# EAGLE library part LPC313X/314X (library microbuilder)
LPC3130/LPC3131 - 180MHz ARM926EJ-S CPU with 96KB (LPC3130) or 192KB (LPC3131) SRAM LPC3141 - 270MHz ARM926EJ-S CPU with 192KB SRAM LPC3143 - 270MHz ARM926EJ-S CPU with 192KB SRAM and AES decryption engine/128-bit unique ID (LPC3143 only)
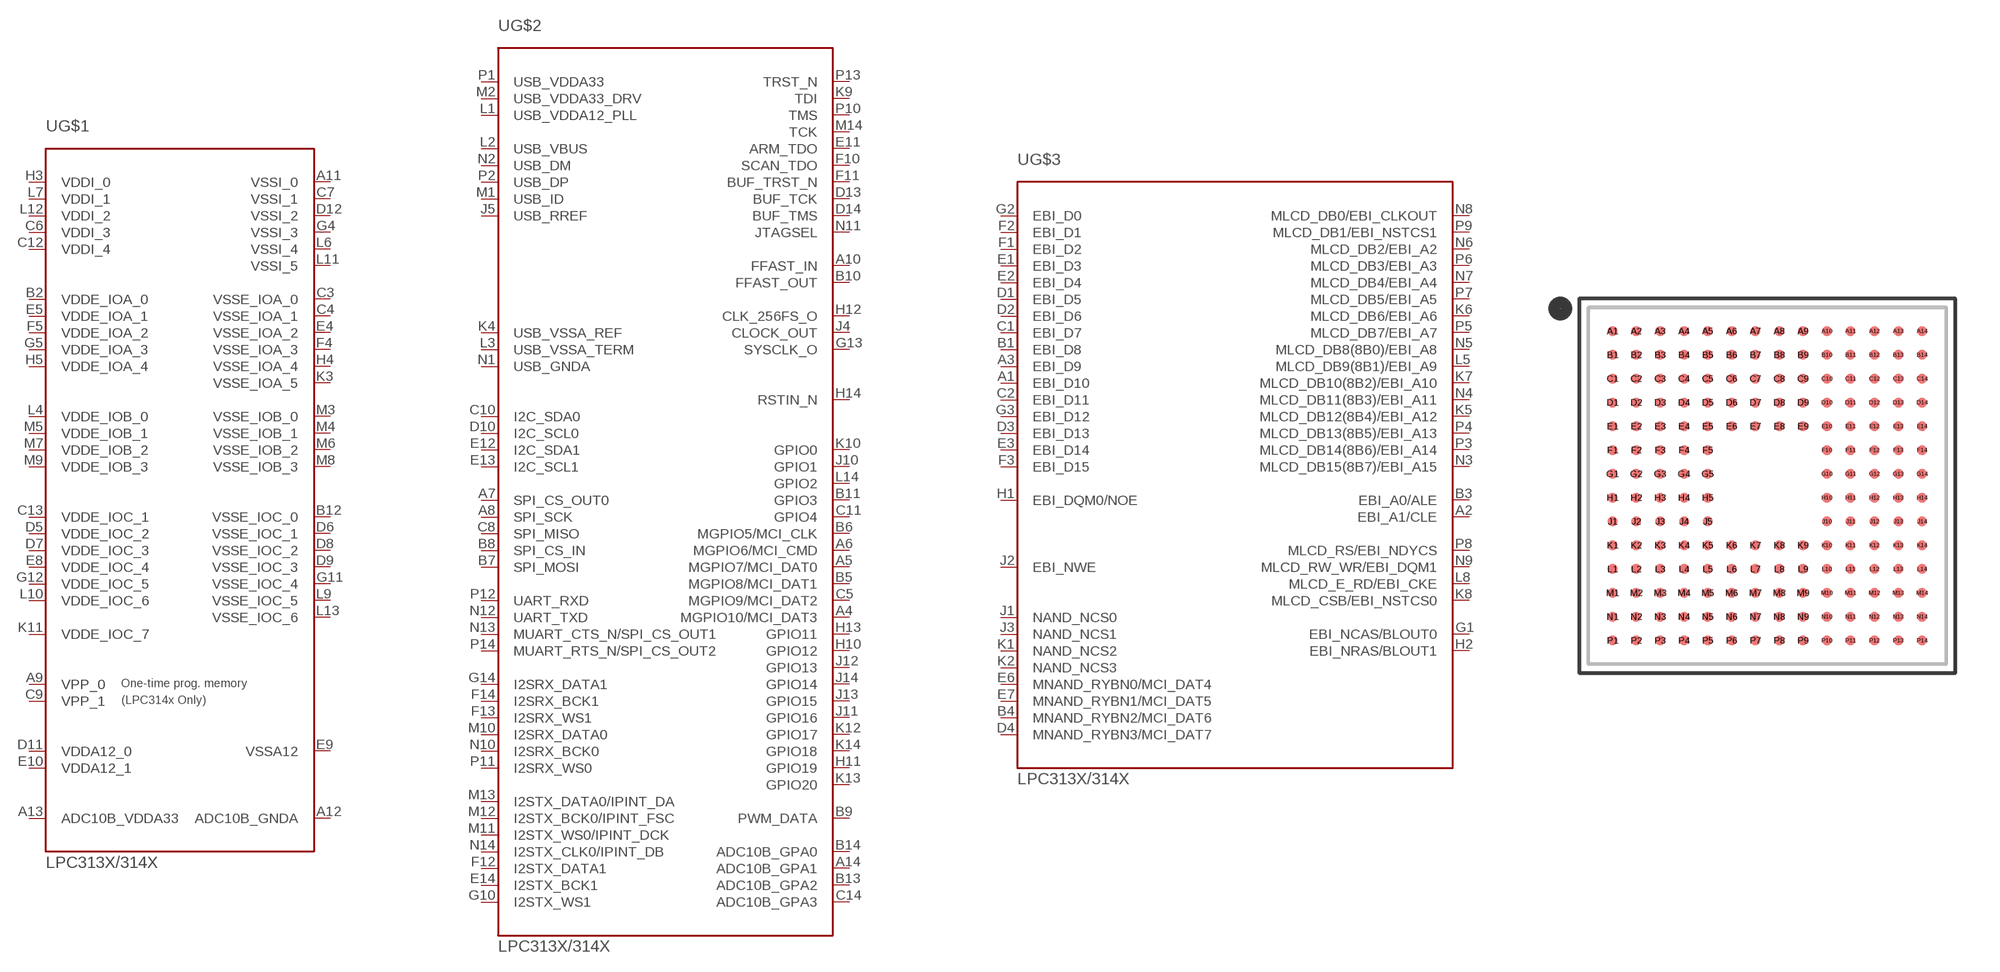
[diagram p72: symbol with the pads of TFBGA180_0.8; footprint TFBGA180_0.8]

Designator prefix U; gates G$1=LPC313X/314X_0 G$2=LPC313X/314X_1 G$3=LPC313X/314X_2

## LPC313X/314X  [TFBGA180_0.8]
A1  G$3:EBI_D10
A2  G$3:EBI_A1/CLE
A3  G$3:EBI_D9
A4  G$2:MGPIO10/MCI_DAT3
A5  G$2:MGPIO7/MCI_DAT0
A6  G$2:MGPIO6/MCI_CMD
A7  G$2:SPI_CS_OUT0
A8  G$2:SPI_SCK
A9  G$1:VPP_0  pwr
A10  G$2:FFAST_IN
A11  G$1:VSSI_0  pwr
A12  G$1:ADC10B_GNDA  pwr
A13  G$1:ADC10B_VDDA33  pwr
A14  G$2:ADC10B_GPA1
B1  G$3:EBI_D8
B2  G$1:VDDE_IOA_0  pwr
B3  G$3:EBI_A0/ALE
B4  G$3:MNAND_RYBN2/MCI_DAT6
B5  G$2:MGPIO8/MCI_DAT1
B6  G$2:MGPIO5/MCI_CLK
B7  G$2:SPI_MOSI
B8  G$2:SPI_CS_IN
B9  G$2:PWM_DATA
B10  G$2:FFAST_OUT
B11  G$2:GPIO3
B12  G$1:VSSE_IOC_0  pwr
B13  G$2:ADC10B_GPA2
B14  G$2:ADC10B_GPA0
C1  G$3:EBI_D7
C2  G$3:EBI_D11
C3  G$1:VSSE_IOA_0  pwr
C4  G$1:VSSE_IOA_1  pwr
C5  G$2:MGPIO9/MCI_DAT2
C6  G$1:VDDI_3  pwr
C7  G$1:VSSI_1  pwr
C8  G$2:SPI_MISO
C9  G$1:VPP_1  pwr
C10  G$2:I2C_SDA0
C11  G$2:GPIO4
C12  G$1:VDDI_4  pwr
C13  G$1:VDDE_IOC_1  pwr
C14  G$2:ADC10B_GPA3
D1  G$3:EBI_D5
D2  G$3:EBI_D6
D3  G$3:EBI_D13
D4  G$3:MNAND_RYBN3/MCI_DAT7
D5  G$1:VDDE_IOC_2  pwr
D6  G$1:VSSE_IOC_1  pwr
D7  G$1:VDDE_IOC_3  pwr
D8  G$1:VSSE_IOC_2  pwr
D9  G$1:VSSE_IOC_3  pwr
D10  G$2:I2C_SCL0
D11  G$1:VDDA12_0  pwr
D12  G$1:VSSI_2  pwr
D13  G$2:BUF_TCK
D14  G$2:BUF_TMS
E1  G$3:EBI_D3
E2  G$3:EBI_D4
E3  G$3:EBI_D14
E4  G$1:VSSE_IOA_2  pwr
E5  G$1:VDDE_IOA_1  pwr
E6  G$3:MNAND_RYBN0/MCI_DAT4
E7  G$3:MNAND_RYBN1/MCI_DAT5
E8  G$1:VDDE_IOC_4  pwr
E9  G$1:VSSA12  pwr
E10  G$1:VDDA12_1  pwr
E11  G$2:ARM_TDO
E12  G$2:I2C_SDA1
E13  G$2:I2C_SCL1
E14  G$2:I2STX_BCK1
F1  G$3:EBI_D2
F2  G$3:EBI_D1
F3  G$3:EBI_D15
F4  G$1:VSSE_IOA_3  pwr
F5  G$1:VDDE_IOA_2  pwr
F10  G$2:SCAN_TDO
F11  G$2:BUF_TRST_N
F12  G$2:I2STX_DATA1
F13  G$2:I2SRX_WS1
F14  G$2:I2SRX_BCK1
G1  G$3:EBI_NCAS/BLOUT0
G2  G$3:EBI_D0
G3  G$3:EBI_D12
G4  G$1:VSSI_3  pwr
G5  G$1:VDDE_IOA_3  pwr
G10  G$2:I2STX_WS1
G11  G$1:VSSE_IOC_4  pwr
G12  G$1:VDDE_IOC_5  pwr
G13  G$2:SYSCLK_O
G14  G$2:I2SRX_DATA1
H1  G$3:EBI_DQM0/NOE
H2  G$3:EBI_NRAS/BLOUT1
H3  G$1:VDDI_0  pwr
H4  G$1:VSSE_IOA_4  pwr
H5  G$1:VDDE_IOA_4  pwr
H10  G$2:GPIO12
H11  G$2:GPIO19
H12  G$2:CLK_256FS_O
H13  G$2:GPIO11
H14  G$2:RSTIN_N
J1  G$3:NAND_NCS0
J2  G$3:EBI_NWE
J3  G$3:NAND_NCS1
J4  G$2:CLOCK_OUT
J5  G$2:USB_RREF
J10  G$2:GPIO1
J11  G$2:GPIO16
J12  G$2:GPIO13
J13  G$2:GPIO15
J14  G$2:GPIO14
K1  G$3:NAND_NCS2
K2  G$3:NAND_NCS3
K3  G$1:VSSE_IOA_5  pwr
K4  G$2:USB_VSSA_REF
K5  G$3:MLCD_DB12(8B4)/EBI_A12
K6  G$3:MLCD_DB6/EBI_A6
K7  G$3:MLCD_DB10(8B2)/EBI_A10
K8  G$3:MLCD_CSB/EBI_NSTCS0
K9  G$2:TDI
K10  G$2:GPIO0
K11  G$1:VDDE_IOC_7  pwr
K12  G$2:GPIO17
K13  G$2:GPIO20
K14  G$2:GPIO18
L1  G$2:USB_VDDA12_PLL
L2  G$2:USB_VBUS
L3  G$2:USB_VSSA_TERM
L4  G$1:VDDE_IOB_0  pwr
L5  G$3:MLCD_DB9(8B1)/EBI_A9
L6  G$1:VSSI_4  pwr
L7  G$1:VDDI_1  pwr
L8  G$3:MLCD_E_RD/EBI_CKE
L9  G$1:VSSE_IOC_5  pwr
L10  G$1:VDDE_IOC_6  pwr
L11  G$1:VSSI_5  pwr
L12  G$1:VDDI_2  pwr
L13  G$1:VSSE_IOC_6  pwr
L14  G$2:GPIO2
M1  G$2:USB_ID
M2  G$2:USB_VDDA33_DRV
M3  G$1:VSSE_IOB_0  pwr
M4  G$1:VSSE_IOB_1  pwr
M5  G$1:VDDE_IOB_1  pwr
M6  G$1:VSSE_IOB_2  pwr
M7  G$1:VDDE_IOB_2  pwr
M8  G$1:VSSE_IOB_3  pwr
M9  G$1:VDDE_IOB_3  pwr
M10  G$2:I2SRX_DATA0
M11  G$2:I2STX_WS0/IPINT_DCK
M12  G$2:I2STX_BCK0/IPINT_FSC
M13  G$2:I2STX_DATA0/IPINT_DA
M14  G$2:TCK
N1  G$2:USB_GNDA
N2  G$2:USB_DM
N3  G$3:MLCD_DB15(8B7)/EBI_A15
N4  G$3:MLCD_DB11(8B3)/EBI_A11
N5  G$3:MLCD_DB8(8B0)/EBI_A8
N6  G$3:MLCD_DB2/EBI_A2
N7  G$3:MLCD_DB4/EBI_A4
N8  G$3:MLCD_DB0/EBI_CLKOUT
N9  G$3:MLCD_RW_WR/EBI_DQM1
N10  G$2:I2SRX_BCK0
N11  G$2:JTAGSEL
N12  G$2:UART_TXD
N13  G$2:MUART_CTS_N/SPI_CS_OUT1
N14  G$2:I2STX_CLK0/IPINT_DB
P1  G$2:USB_VDDA33
P2  G$2:USB_DP
P3  G$3:MLCD_DB14(8B6)/EBI_A14
P4  G$3:MLCD_DB13(8B5)/EBI_A13
P5  G$3:MLCD_DB7/EBI_A7
P6  G$3:MLCD_DB3/EBI_A3
P7  G$3:MLCD_DB5/EBI_A5
P8  G$3:MLCD_RS/EBI_NDYCS
P9  G$3:MLCD_DB1/EBI_NSTCS1
P10  G$2:TMS
P11  G$2:I2SRX_WS0
P12  G$2:UART_RXD
P13  G$2:TRST_N
P14  G$2:MUART_RTS_N/SPI_CS_OUT2

## Footprint TFBGA180_0.8 (pad centres in mm)
TFBGA180 (12.0x12.0mm, 0.8mm pitch, 0.45mm balls) Source: http://ics.nxp.com/products/lpc3000/datasheet/lpc3130.lpc3131.pdf Pad size is 0.34mm copper and ~0.5mm total with the solder mask (which should allow 6mil traces) as per the TFBGA180 recommendations in: http://www.nxp.com/documents/application_note/AN10778.pdf
smd 0.34 x 0.34: A1 -5.2,5.2; A2 -4.4,5.2; A3 -3.6,5.2; A4 -2.8,5.2; A5 -2,5.2; A6 -1.2,5.2; A7 -0.4,5.2; A8 0.4,5.2; A9 1.2,5.2; A10 2,5.2; A11 2.8,5.2; A12 3.6,5.2; A13 4.4,5.2; A14 5.2,5.2; B1 -5.2,4.4; B2 -4.4,4.4; B3 -3.6,4.4; B4 -2.8,4.4; B5 -2,4.4; B6 -1.2,4.4; B7 -0.4,4.4; B8 0.4,4.4; B9 1.2,4.4; B10 2,4.4; B11 2.8,4.4; B12 3.6,4.4; B13 4.4,4.4; B14 5.2,4.4; C1 -5.2,3.6; C2 -4.4,3.6; C3 -3.6,3.6; C4 -2.8,3.6; C5 -2,3.6; C6 -1.2,3.6; C7 -0.4,3.6; C8 0.4,3.6; C9 1.2,3.6; C10 2,3.6; C11 2.8,3.6; C12 3.6,3.6; C13 4.4,3.6; C14 5.2,3.6; D1 -5.2,2.8; D2 -4.4,2.8; D3 -3.6,2.8; D4 -2.8,2.8; D5 -2,2.8; D6 -1.2,2.8; D7 -0.4,2.8; D8 0.4,2.8; D9 1.2,2.8; D10 2,2.8; D11 2.8,2.8; D12 3.6,2.8; D13 4.4,2.8; D14 5.2,2.8; E1 -5.2,2; E2 -4.4,2; E3 -3.6,2; E4 -2.8,2; E5 -2,2; E6 -1.2,2; E7 -0.4,2; E8 0.4,2; E9 1.2,2; E10 2,2; E11 2.8,2; E12 3.6,2; E13 4.4,2; E14 5.2,2; F1 -5.2,1.2; F2 -4.4,1.2; F3 -3.6,1.2; F4 -2.8,1.2; F5 -2,1.2; F10 2,1.2; F11 2.8,1.2; F12 3.6,1.2; F13 4.4,1.2; F14 5.2,1.2; G1 -5.2,0.4; G2 -4.4,0.4; G3 -3.6,0.4; G4 -2.8,0.4; G5 -2,0.4; G10 2,0.4; G11 2.8,0.4; G12 3.6,0.4; G13 4.4,0.4; G14 5.2,0.4; H1 -5.2,-0.4; H2 -4.4,-0.4; H3 -3.6,-0.4; H4 -2.8,-0.4; H5 -2,-0.4; H10 2,-0.4; H11 2.8,-0.4; H12 3.6,-0.4; H13 4.4,-0.4; H14 5.2,-0.4; J1 -5.2,-1.2; J2 -4.4,-1.2; J3 -3.6,-1.2; J4 -2.8,-1.2; J5 -2,-1.2; J10 2,-1.2; J11 2.8,-1.2; J12 3.6,-1.2; J13 4.4,-1.2; J14 5.2,-1.2; K1 -5.2,-2; K2 -4.4,-2; K3 -3.6,-2; K4 -2.8,-2; K5 -2,-2; K6 -1.2,-2; K7 -0.4,-2; K8 0.4,-2; K9 1.2,-2; K10 2,-2; K11 2.8,-2; K12 3.6,-2; K13 4.4,-2; K14 5.2,-2; L1 -5.2,-2.8; L2 -4.4,-2.8; L3 -3.6,-2.8; L4 -2.8,-2.8; L5 -2,-2.8; L6 -1.2,-2.8; L7 -0.4,-2.8; L8 0.4,-2.8; L9 1.2,-2.8; L10 2,-2.8; L11 2.8,-2.8; L12 3.6,-2.8; L13 4.4,-2.8; L14 5.2,-2.8; M1 -5.2,-3.6; M2 -4.4,-3.6; M3 -3.6,-3.6; M4 -2.8,-3.6; M5 -2,-3.6; M6 -1.2,-3.6; M7 -0.4,-3.6; M8 0.4,-3.6; M9 1.2,-3.6; M10 2,-3.6; M11 2.8,-3.6; M12 3.6,-3.6; M13 4.4,-3.6; M14 5.2,-3.6; N1 -5.2,-4.4; N2 -4.4,-4.4; N3 -3.6,-4.4; N4 -2.8,-4.4; N5 -2,-4.4; N6 -1.2,-4.4; N7 -0.4,-4.4; N8 0.4,-4.4; N9 1.2,-4.4; N10 2,-4.4; N11 2.8,-4.4; N12 3.6,-4.4; N13 4.4,-4.4; N14 5.2,-4.4; P1 -5.2,-5.2; P2 -4.4,-5.2; P3 -3.6,-5.2; P4 -2.8,-5.2; P5 -2,-5.2; P6 -1.2,-5.2; P7 -0.4,-5.2; P8 0.4,-5.2; P9 1.2,-5.2; P10 2,-5.2; P11 2.8,-5.2; P12 3.6,-5.2; P13 4.4,-5.2; P14 5.2,-5.2